# Altium footprint library Capacitors.PcbLib: 106 footprints (part 7 of 7)
Each footprint in its own frame and in the unit in brackets; x right, y up, seen from the top. Pads: shape width x height; smd on the part's side, far side on the other; paste and mask are expansions set on the pad; w line width, h text height; cw(c..) or ccw(c..) is an arc to the next point about the centre after c.
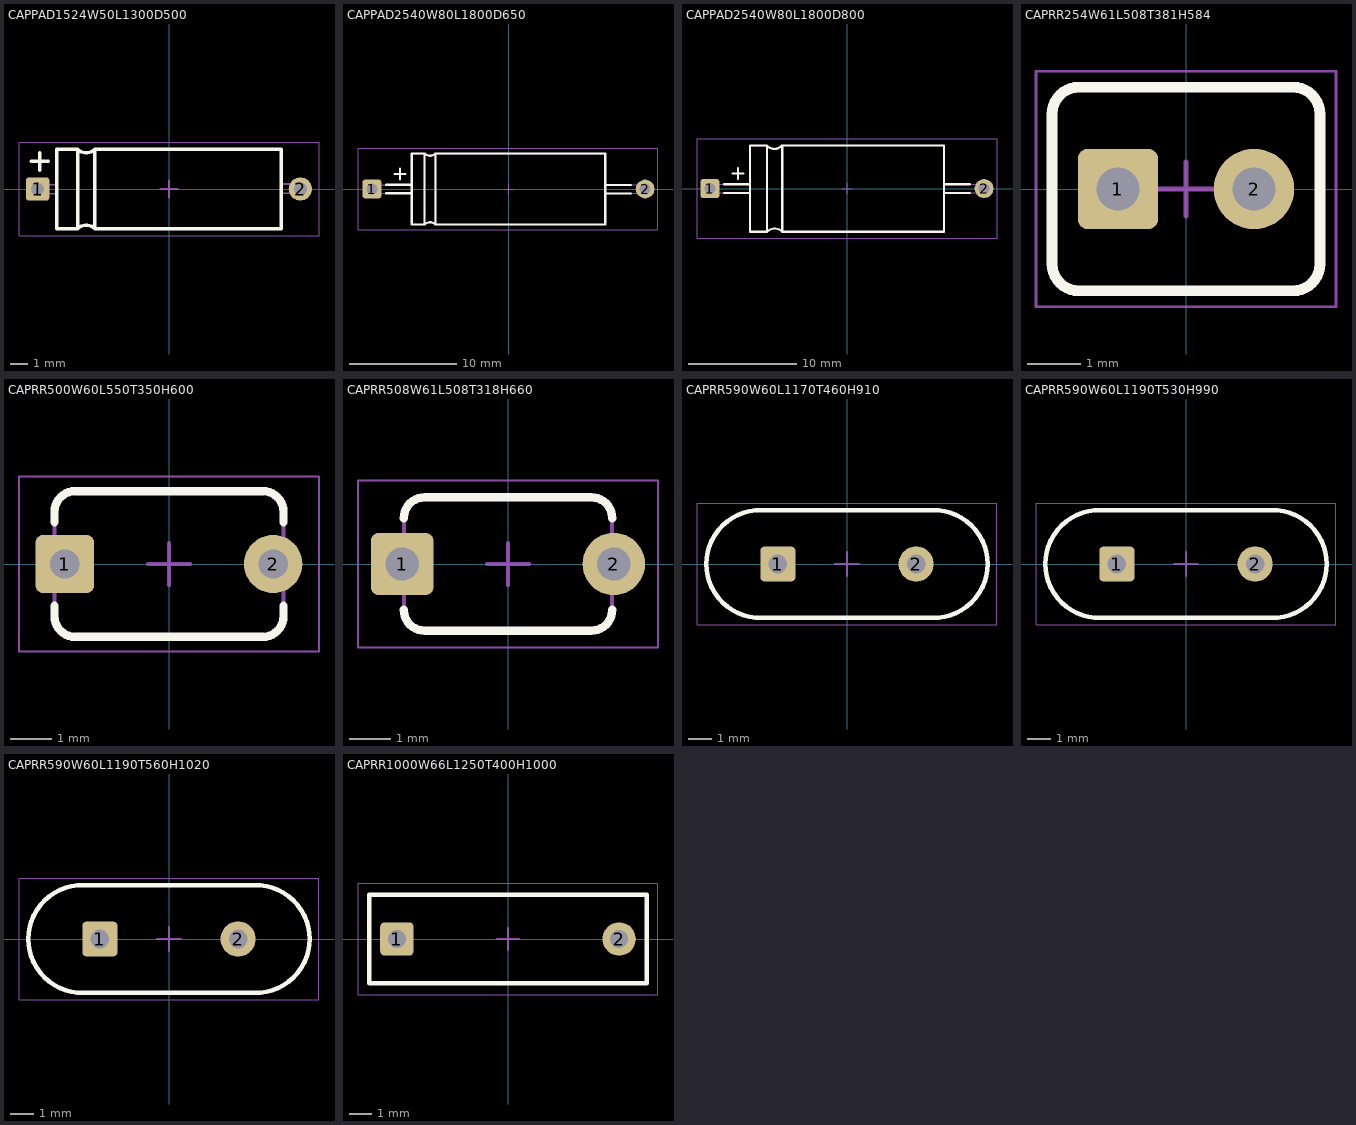
[diagram p6: the footprints below, top view; thin cyan lines are the x and y axes]

## CAPPAD1524W50L1300D500 [mm] "Aluminum Electrolytic Capacitor, Polarized Axial Diameter; Lead Spacing 15.24mm, Lead Width 0.5mm, Body Length 13mm, Body Diameter 5mm"
height 5
pads (2):
  rrect25% 1.35x1.35 hole 0.75 paste-1000 mask+0.05: 1(-7.62,0)
  round 1.35 hole 0.75 paste-1000 mask+0.05: 2(7.62,0)
Top Overlay:
  lines w0.2: -8,1.6 -7,1.6 ; -7.5,1.1 -7.5,2.1 ; -5.3,-2.3 cw(c-4.8,-2.8) -4.3,-2.3 ; -5.3,-2.3 -5.3,2.3 ; -5.3,-2.3 -6.5,-2.3 -6.5,2.3 -5.3,2.3 ; -5.3,2.3 ccw(c-4.8,2.8) -4.3,2.3 ; -4.3,-2.3 6.5,-2.3 6.5,2.3 -4.3,2.3 ; -4.3,-2.3 -4.3,2.3
Top Component Outline:
  lines w0.1: -5.3,-2.3 cw(c-4.8,-2.8) -4.3,-2.3 ; -5.3,-2.3 -5.3,2.3 ; -5.3,-2.3 -6.5,-2.3 -6.5,2.3 -5.3,2.3 ; -5.3,2.3 ccw(c-4.8,2.8) -4.3,2.3 ; -4.3,-2.3 6.5,-2.3 6.5,2.3 -4.3,2.3 ; -4.3,-2.3 -4.3,2.3
Top Courtyard:
  lines w0.05: -8.7,-2.7 8.7,-2.7 8.7,2.7 -8.7,2.7 -8.7,-2.7
Top Component Center:
  lines w0.1: -0.5,0 0.5,0 ; 0,-0.5 0,0.5
Top Designator:
  text ".Designator" at -4.04,-0.476 h2
Top Assembly:
  lines w0.1: -7.6,-0.278 -6.5,-0.278 ; -7.6,0.25 -6.5,0.25 ; 6.529,-0.239 7.629,-0.239 ; 6.529,0.289 7.629,0.289 ; -5.3,-2.3 cw(c-4.8,-2.8) -4.3,-2.3 ; -5.3,-2.3 -5.3,2.3 ; -5.3,-2.3 -6.5,-2.3 -6.5,2.3 -5.3,2.3 ; -5.3,2.3 ccw(c-4.8,2.8) -4.3,2.3 ; -4.3,-2.3 6.5,-2.3 6.5,2.3 -4.3,2.3 ; -4.3,-2.3 -4.3,2.3
  text "+" at -6.3,-0.4 h2
  text "-" at 5.6,-0.606 h2
  text ".Designator" at -4.04,-0.476 h2
3D body "CAPPA1524-1050X500.step": height 5, standoff -3.1, extent -7.92,-2.5 7.92,2.5

## CAPPAD2540W80L1800D650 [mm] "Aluminum Electrolytic Capacitor, Polarized Axial Diameter; Lead Spacing 25.40mm, Lead Width 0.8mm, Body Length 18mm, Body Diameter 6.5mm"
height 6.9
pads (2):
  rrect25% 1.75x1.75 hole 1.05 paste-1000 mask+0.05: 1(-12.7,0)
  round 1.75 hole 1.05 paste-1000 mask+0.05: 2(12.7,0)
Top Overlay:
  lines w0.2: -11.4,-0.4 -9,-0.4 ; -11.4,0.4 -9,0.4 ; -10.6,1.4 -9.6,1.4 ; -10.1,0.9 -10.1,1.9 ; 8.981,-0.432 11.381,-0.432 ; 8.981,0.368 11.381,0.368 ; -7.8,-3.3 cw(c-7.3,-3.8) -6.8,-3.3 ; -7.8,-3.3 -7.8,3.3 ; -7.8,-3.3 -9,-3.3 -9,3.3 -7.8,3.3 ; -7.8,3.3 ccw(c-7.3,3.8) -6.8,3.3 ; -6.8,-3.3 -6.8,3.3 ; -6.8,-3.3 9,-3.3 9,3.3 -6.8,3.3
Top Component Outline:
  lines w0.1: -7.8,-3.3 cw(c-7.3,-3.8) -6.8,-3.3 ; -7.8,-3.3 -7.8,3.3 ; -7.8,-3.3 -9,-3.3 -9,3.3 -7.8,3.3 ; -7.8,3.3 ccw(c-7.3,3.8) -6.8,3.3 ; -6.8,-3.3 -6.8,3.3 ; -6.8,-3.3 9,-3.3 9,3.3 -6.8,3.3
Top Courtyard:
  lines w0.05: -14,-3.8 -14,3.8 13.9,3.8 13.9,-3.8 -14,-3.8
Top Component Center:
  lines w0.1: -0.5,0 0.5,0 ; 0,-0.5 0,0.5
Top Designator:
  text ".Designator" at -4.04,-0.476 h2
Top Assembly:
  lines w0.1: -12.7,-0.4 -9,-0.4 ; -12.7,0.4 -9,0.4 ; 9.017,-0.389 12.717,-0.389 ; 9.017,0.411 12.717,0.411 ; -7.8,-3.3 cw(c-7.3,-3.8) -6.8,-3.3 ; -7.8,-3.3 -7.8,3.3 ; -7.8,-3.3 -9,-3.3 -9,3.3 -7.8,3.3 ; -7.8,3.3 ccw(c-7.3,3.8) -6.8,3.3 ; -6.8,-3.3 -6.8,3.3 ; -6.8,-3.3 9,-3.3 9,3.3 -6.8,3.3
  text ".Designator" at -4.04,-0.476 h2
  text "-" at 8.1,-0.606 h2
  text "+" at -8.8,-0.4 h2
3D body "CAPPA2540-1850X690.step": height 6.9, standoff -3.6, extent -13.1,-3.45 13.1,3.45

## CAPPAD2540W80L1800D800 [mm] "Aluminum Electrolytic Capacitor, Polarized Axial Diameter; Lead Spacing 25.40mm, Lead Width 0.8mm, Body Length 18mm, Body Diameter 8mm"
height 8.5
pads (2):
  rrect25% 1.75x1.75 hole 1.05 paste-1000 mask+0.05: 1(-12.7,0)
  round 1.75 hole 1.05 paste-1000 mask+0.05: 2(12.7,0)
Top Overlay:
  lines w0.2: -11.4,-0.4 -9,-0.4 ; -11.4,0.4 -9,0.4 ; -10.6,1.4 -9.6,1.4 ; -10.1,0.9 -10.1,1.9 ; -7.413,3.975 -9,3.975 -9,-4 -7.4,-4 ; 9,-0.4 11.4,-0.4 ; 9,0.4 11.4,0.4 ; -7.4,-4 cw(c-6.7,-4.7) -6,-4 ; -7.4,-4 -7.4,3.962 ccw(c-6.718,4.643) -6.019,3.98 -6,4 ; -6,-4 9,-4 9,4 -6,4 ; -6,-4 -6,4
Top Component Outline:
  lines w0.1: -7.413,3.975 -9,3.975 -9,-4 -7.4,-4 ; -7.4,-4 cw(c-6.7,-4.7) -6,-4 ; -7.4,-4 -7.4,3.962 ccw(c-6.718,4.643) -6.019,3.98 -6,4 ; -6,-4 9,-4 9,4 -6,4 ; -6,-4 -6,4
Top Courtyard:
  lines w0.05: -13.9,-4.6 -13.9,4.6 13.9,4.6 13.9,-4.6 -13.9,-4.6
Top Component Center:
  lines w0.1: -0.5,0 0.5,0 ; 0,-0.5 0,0.5
Top Designator:
  text ".Designator" at -4.04,-0.476 h2
Top Assembly:
  lines w0.1: -12.7,-0.4 -9,-0.4 ; -12.7,0.4 -9,0.4 ; -7.413,3.975 -9,3.975 -9,-4 -7.4,-4 ; 9,-0.4 12.7,-0.4 ; 9,0.4 12.7,0.4 ; -7.4,-4 cw(c-6.7,-4.7) -6,-4 ; -7.4,-4 -7.4,3.962 ccw(c-6.718,4.643) -6.019,3.98 -6,4 ; -6,-4 9,-4 9,4 -6,4 ; -6,-4 -6,4
  text ".Designator" at -4.04,-0.476 h2
  text "-" at 8.1,-0.606 h2
  text "+" at -8.7,-0.4 h2
3D body "CAPPA2540-1850X850.step": height 8.5, standoff -3.6, extent -13.1,-4.25 13.1,4.25

## CAPRR254W61L508T381H584 [mm] "Ceramic Capacitor, Non-Polarized Radial Rectangular; Lead Spacing 2.54mm, Lead Width 0.61mm, Body Length 5.08mm, Body Thickness 3.81mm, Body Height 5.84mm"
height 5.84
pads (2):
  rrect25% 1.5x1.5 hole 0.8 paste-1000 mask+0.05: 1(-1.27,0)
  round 1.5 hole 0.8 paste-1000 mask+0.05: 2(1.27,0)
Top Overlay:
  lines w0.2: -2.5,-1.4 ccw(c-2,-1.4) -2,-1.9 2,-1.9 ccw(c2,-1.4) 2.5,-1.4 2.5,1.4 ccw(c2,1.4) 2,1.9 -2,1.9 ccw(c-2,1.4) -2.5,1.4 -2.5,-1.4
Top Component Outline:
  lines w0.1: -2.5,-1.4 ccw(c-2,-1.4) -2,-1.9 2,-1.9 ccw(c2,-1.4) 2.5,-1.4 2.5,1.4 ccw(c2,1.4) 2,1.9 -2,1.9 ccw(c-2,1.4) -2.5,1.4 -2.5,-1.4
Top Courtyard:
  lines w0.05: -2.8,-2.2 2.8,-2.2 2.8,2.2 -2.8,2.2 -2.8,-2.2
Top Component Center:
  lines w0.1: -0.5,0 0.5,0 ; 0,-0.5 0,0.5
Top Designator:
  text ".Designator" at -4.04,-0.476 h2
Top Assembly:
  lines w0.1: -2.5,-1.4 ccw(c-2,-1.4) -2,-1.9 2,-1.9 ccw(c2,-1.4) 2.5,-1.4 2.5,1.4 ccw(c2,1.4) 2,1.9 -2,1.9 ccw(c-2,1.4) -2.5,1.4 -2.5,-1.4
  text ".Designator" at -4.04,-0.476 h2
3D body "CAPRR254-508X381.step": height 7.36, standoff -7, extent -2.54,-1.915 2.54,1.9

## CAPRR500W60L550T350H600 [mm] "Ceramic Capacitor, Non-Polarized Radial Rectangular; Lead Spacing 5.00mm, Lead Width 0.60mm, Body Length 5.50mm, Body Thickness 3.50mm, Body Height 6.00mm"
height 6.2
pads (2):
  rrect25% 1.4x1.4 hole 0.7 paste-1000 mask+0.05: 1(-2.5,0)
  round 1.4 hole 0.7 paste-1000 mask+0.05: 2(2.5,0)
Top Overlay:
  lines w0.2: -2.75,-1 -2.75,-1.25 ccw(c-2.25,-1.25) -2.25,-1.75 2.25,-1.75 ccw(c2.25,-1.25) 2.75,-1.25 2.75,-1 ; -2.75,1 -2.75,1.25 cw(c-2.25,1.25) -2.25,1.75 2.25,1.75 cw(c2.25,1.25) 2.75,1.25 2.75,1
Top Component Outline:
  lines w0.1: -2.75,-1.25 ccw(c-2.25,-1.25) -2.25,-1.75 2.25,-1.75 ccw(c2.25,-1.25) 2.75,-1.25 2.75,1.25 ccw(c2.25,1.25) 2.25,1.75 -2.25,1.75 ccw(c-2.25,1.25) -2.75,1.25 -2.75,-1.25
Top Courtyard:
  lines w0.05: -3.6,-2.1 -3.6,2.1 3.6,2.1 3.6,-2.1 -3.6,-2.1
Top Component Center:
  lines w0.1: -0.5,0 0.5,0 ; 0,-0.5 0,0.5
Top Designator:
  text ".Designator" at -4.04,-0.476 h2
Top Assembly:
  lines w0.1: -2.75,-1.25 ccw(c-2.25,-1.25) -2.25,-1.75 2.25,-1.75 ccw(c2.25,-1.25) 2.75,-1.25 2.75,1.25 ccw(c2.25,1.25) 2.25,1.75 -2.25,1.75 ccw(c-2.25,1.25) -2.75,1.25 -2.75,-1.25
  text ".Designator" at -4.04,-0.476 h2
3D body "CAPRR500-550X600.step": height 6.2, standoff -6.8, extent -2.75,-1.75 2.75,1.75

## CAPRR508W61L508T318H660 [mm] "Ceramic Capacitor, Non-Polarized Radial Rectangular; Lead Spacing 5.08mm, Lead Width 0.61mm, Body Length 5.08mm, Body Thickness 3.18mm, Body Height 6.60mm"
height 6.6
pads (2):
  rrect25% 1.5x1.5 hole 0.8 paste-1000 mask+0.05: 1(-2.54,0)
  round 1.5 hole 0.8 paste-1000 mask+0.05: 2(2.54,0)
Top Overlay:
  lines w0.2: -2.5,-1.1 ccw(c-2,-1.1) -2,-1.6 2,-1.6 ccw(c2,-1.1) 2.5,-1.1 ; -2.5,1.1 cw(c-2,1.1) -2,1.6 2,1.6 cw(c2,1.1) 2.5,1.1
Top Component Outline:
  lines w0.1: -2.5,-1.1 ccw(c-2,-1.1) -2,-1.6 2,-1.6 ccw(c2,-1.1) 2.5,-1.1 2.5,1.1 ccw(c2,1.1) 2,1.6 -2,1.6 ccw(c-2,1.1) -2.5,1.1 -2.5,-1.1
Top Courtyard:
  lines w0.05: -3.6,-2 3.6,-2 3.6,2 -3.6,2 -3.6,-2
Top Component Center:
  lines w0.1: -0.5,0 0.5,0 ; 0,-0.5 0,0.5
Top Designator:
  text ".Designator" at -4.04,-0.476 h2
Top Assembly:
  lines w0.1: -2.5,-1.1 ccw(c-2,-1.1) -2,-1.6 2,-1.6 ccw(c2,-1.1) 2.5,-1.1 2.5,1.1 ccw(c2,1.1) 2,1.6 -2,1.6 ccw(c-2,1.1) -2.5,1.1 -2.5,-1.1
  text ".Designator" at -4.04,-0.476 h2
3D body "CAPRR508-508X318.step": height 6.56, standoff -7.04, extent -2.793,-1.6 2.793,1.585

## CAPRR590W60L1170T460H910 [mm] "Ceramic Capacitor, Non-Polarized Radial Rectangular; Lead Spacing 5.90mm, Lead Width 0.6mm, Body Length 11.70mm, Body Thickness 4.60mm, Body Height 9.10mm"
height 11.11
pads (2):
  rrect25% 1.5x1.5 hole 0.8 paste-1000 mask+0.05: 1(-2.95,0)
  round 1.5 hole 0.8 paste-1000 mask+0.05: 2(2.95,0)
Top Overlay:
  lines w0.2: -3.65,-2.299 cw(c-3.7,0) -3.65,2.299 3.65,2.3 cw(c3.7,0) 3.65,-2.299 -3.65,-2.299
Top Component Outline:
  lines w0.1: -3.65,-2.299 cw(c-3.7,0) -3.65,2.299 3.65,2.3 cw(c3.7,0) 3.65,-2.299 -3.65,-2.299
Top Courtyard:
  lines w0.05: -6.4,-2.6 -6.4,2.6 6.4,2.6 6.4,-2.6 -6.4,-2.6
Top Component Center:
  lines w0.1: -0.5,0 0.5,0 ; 0,-0.5 0,0.5
Top Designator:
  text ".Designator" at -4.04,-0.476 h2
Top Assembly:
  lines w0.1: -3.65,-2.299 cw(c-3.7,0) -3.65,2.299 3.65,2.3 cw(c3.7,0) 3.65,-2.299 -3.65,-2.299
  text ".Designator" at -4.04,-0.476 h2
3D body "CAPRR590-1170X460.step": height 11.12, standoff -23.15, extent -5.85,-2.3 5.85,2.3

## CAPRR590W60L1190T530H990 [mm] "Ceramic Capacitor, Non-Polarized Radial Rectangular; Lead Spacing 5.90mm, Lead Width 0.6mm, Body Length 11.90mm, Body Thickness 5.30mm, Body Height 9.90mm"
height 12
pads (2):
  rrect25% 1.5x1.5 hole 0.8 paste-1000 mask+0.05: 1(-2.95,0)
  round 1.5 hole 0.8 paste-1000 mask+0.05: 2(2.95,0)
Top Overlay:
  lines w0.2: -3.65,-2.299 cw(c-3.7,0) -3.65,2.299 3.65,2.3 cw(c3.7,0) 3.65,-2.299 -3.65,-2.299
Top Component Outline:
  lines w0.1: -3.65,-2.299 cw(c-3.7,0) -3.65,2.299 3.65,2.3 cw(c3.7,0) 3.65,-2.299 -3.65,-2.299
Top Courtyard:
  lines w0.05: -6.4,-2.6 -6.4,2.6 6.4,2.6 6.4,-2.6 -6.4,-2.6
Top Component Center:
  lines w0.1: -0.5,0 0.5,0 ; 0,-0.5 0,0.5
Top Designator:
  text ".Designator" at -4.04,-0.476 h2
Top Assembly:
  lines w0.1: -3.65,-2.299 cw(c-3.7,0) -3.65,2.299 3.65,2.3 cw(c3.7,0) 3.65,-2.299 -3.65,-2.299
  text ".Designator" at -4.04,-0.476 h2
3D body "CAPRR590-1170X460.step": height 11.12, standoff -23.15, extent -5.85,-2.3 5.85,2.3

## CAPRR590W60L1190T560H1020 [mm] "Ceramic Capacitor, Non-Polarized Radial Rectangular; Lead Spacing 5.90mm, Lead Width 0.6mm, Body Length 11.90mm, Body Thickness 5.60mm, Body Height 10.20mm"
height 12.3
pads (2):
  rrect25% 1.5x1.5 hole 0.8 paste-1000 mask+0.05: 1(-2.95,0)
  round 1.5 hole 0.8 paste-1000 mask+0.05: 2(2.95,0)
Top Overlay:
  lines w0.2: -3.65,-2.299 cw(c-3.7,0) -3.65,2.299 3.65,2.3 cw(c3.7,0) 3.65,-2.299 -3.65,-2.299
Top Component Outline:
  lines w0.1: -3.65,-2.299 cw(c-3.7,0) -3.65,2.299 3.65,2.3 cw(c3.7,0) 3.65,-2.299 -3.65,-2.299
Top Courtyard:
  lines w0.05: -6.4,-2.6 6.4,-2.6 6.4,2.6 -6.4,2.6 -6.4,-2.6
Top Component Center:
  lines w0.1: -0.5,0 0.5,0 ; 0,-0.5 0,0.5
Top Designator:
  text ".Designator" at -4.04,-0.476 h2
Top Assembly:
  lines w0.1: -3.65,-2.299 cw(c-3.7,0) -3.65,2.299 3.65,2.3 cw(c3.7,0) 3.65,-2.299 -3.65,-2.299
  text ".Designator" at -4.04,-0.476 h2
3D body "CAPRR590-1170X460.step": height 11.12, standoff -23.15, extent -5.85,-2.3 5.85,2.3

## CAPRR1000W66L1250T400H1000 [mm] "Film Capacitor, Non-Polarized Radial Rectangular; Lead Spacing 10.00mm, Lead Width 0.66mm, Body Length 12.50mm, Body Thickness 4.00mm, Body Height 10.00mm"
height 10
pads (2):
  rrect25% 1.5x1.5 hole 0.8 paste-1000 mask+0.05: 1(-5,0)
  round 1.5 hole 0.8 paste-1000 mask+0.05: 2(5,0)
Top Overlay:
  lines w0.2: -6.25,-2 -6.25,2 6.25,2 6.25,-2 -6.25,-2
Top Component Outline:
  lines w0.1: -6.25,-2 6.25,-2 6.25,2 -6.25,2 -6.25,-2
Top Courtyard:
  lines w0.05: -6.75,-2.5 6.75,-2.5 6.75,2.5 -6.75,2.5 -6.75,-2.5
Top Component Center:
  lines w0.1: -0.5,0 0.5,0 ; 0,-0.5 0,0.5
Top Designator:
  text ".Designator" at -4.04,-0.476 h2
Top Assembly:
  lines w0.1: -6.25,-2 -6.25,2 6.25,2 6.25,-2 -6.25,-2
  text ".Designator" at -4.04,-0.476 h2
3D body "CAPRR_VISHAY_1000-1250X400.step": height 10.24, standoff -3.76, extent -6.25,-2 6.25,2